# EAGLE library part SIL2X10 (library lib_paul)
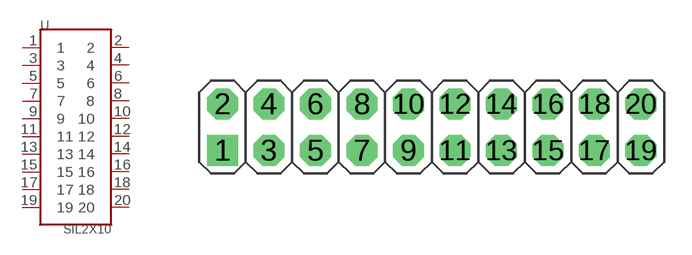
[diagram p10: symbol with the pads of CON2X10-2.54; footprint CON2X10-2.54]

Designator prefix -

## SIL2X10  [CON2X10-2.54]
1  1
2  2
3  3
4  4
5  5
6  6
7  7
8  8
9  9
10  10
11  11
12  12
13  13
14  14
15  15
16  16
17  17
18  18
19  19
20  20

## Footprint CON2X10-2.54 (pad centres in mm)
drill 1 pad 1.676 square: 1 -11.43,-1.27
drill 1 pad 1.676 octagon: 2 -11.43,1.27; 3 -8.89,-1.27; 4 -8.89,1.27; 5 -6.35,-1.27; 6 -6.35,1.27; 7 -3.81,-1.27; 8 -3.81,1.27; 9 -1.27,-1.27; 10 -1.27,1.27; 11 1.27,-1.27; 12 1.27,1.27; 13 3.81,-1.27; 14 3.81,1.27; 15 6.35,-1.27; 16 6.35,1.27; 17 8.89,-1.27; 18 8.89,1.27; 19 11.43,-1.27; 20 11.43,1.27